# Altium footprint library DetectorOptode.PcbLib: 3 footprints
Each footprint in its own frame and in the unit in brackets; x right, y up, seen from the top. Pads: shape width x height; smd on the part's side, far side on the other; paste and mask are expansions set on the pad; w line width, h text height; cw(c..) or ccw(c..) is an arc to the next point about the centre after c.
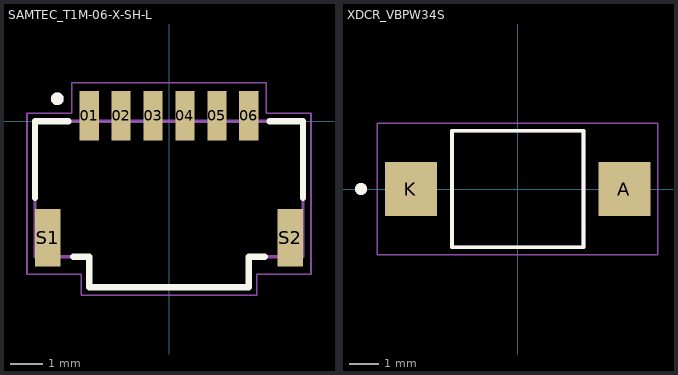
[diagram p0: the footprints below, top view; thin cyan lines are the x and y axes]

## PCBComponent_1 [mm]

## SAMTEC_T1M-06-X-SH-L [mm]
pads (8):
  rect 0.6x1.55 smd: 01(-2.5,0.175) 02(-1.5,0.175) 03(-0.5,0.175) 04(0.5,0.175) 05(1.5,0.175) 06(2.5,0.175)
  rect 0.8x1.8 smd: S1(-3.8,-3.65) S2(3.8,-3.65)
Top Overlay:
  circle w0.2: c-3.5,0.7 r0.1
  lines w0.2: -4.2,-2.4 -4.2,0 -3.15,0 ; -3,-4.25 -2.5,-4.25 -2.5,-5.2 2.5,-5.2 2.5,-4.25 3,-4.25 ; 3.15,0 4.2,0 4.2,-2.4
Mechanical 13:
  circle w0.2: c-3.5,0.7 r0.1
  lines w0.1: -4.2,-4.25 -4.2,0 4.2,0 4.2,-4.25 2.5,-4.25 2.5,-5.2 -2.5,-5.2 -2.5,-4.25 -4.2,-4.25
Mechanical 15:
  lines w0.05: -4.45,-4.8 -4.45,0.25 -3.05,0.25 -3.05,1.2 3.05,1.2 3.05,0.25 4.45,0.25 4.45,-4.8 2.75,-4.8 2.75,-5.45 -2.75,-5.45 -2.75,-4.8 -4.45,-4.8
3D body "T1M-06-F-SH-L-K.stp": height 4.72, standoff -0.01, extent -4.2,-5.2 4.2,0.699

## XDCR_VBPW34S [mm]
pads (2):
  rect 1.75x1.8 smd: A(3.575,0) K(-3.575,0)
Top Overlay:
  circle w0.2: c-5.25,0 r0.1
  lines w0.127: -2.2,-1.95 -2.2,1.95 2.2,1.95 2.2,-1.95 -2.2,-1.95
Mechanical 13:
  circle w0.2: c-5.25,0 r0.1
  lines w0.127: -2.2,-1.95 2.2,-1.95 2.2,1.95 -2.2,1.95 -2.2,-1.95
Mechanical 15:
  lines w0.05: -4.7,-2.2 4.7,-2.2 4.7,2.2 -4.7,2.2 -4.7,-2.2
3D body "VBPW34S--3DModel-STEP-269445.STEP": height 1.4, standoff 0, extent -3.073,-1.95 3.327,1.95